# Altium schematic symbol library op.SCHLIB: 17 symbols
Pins are listed as number, name and electrical type; pins without a type are passive.

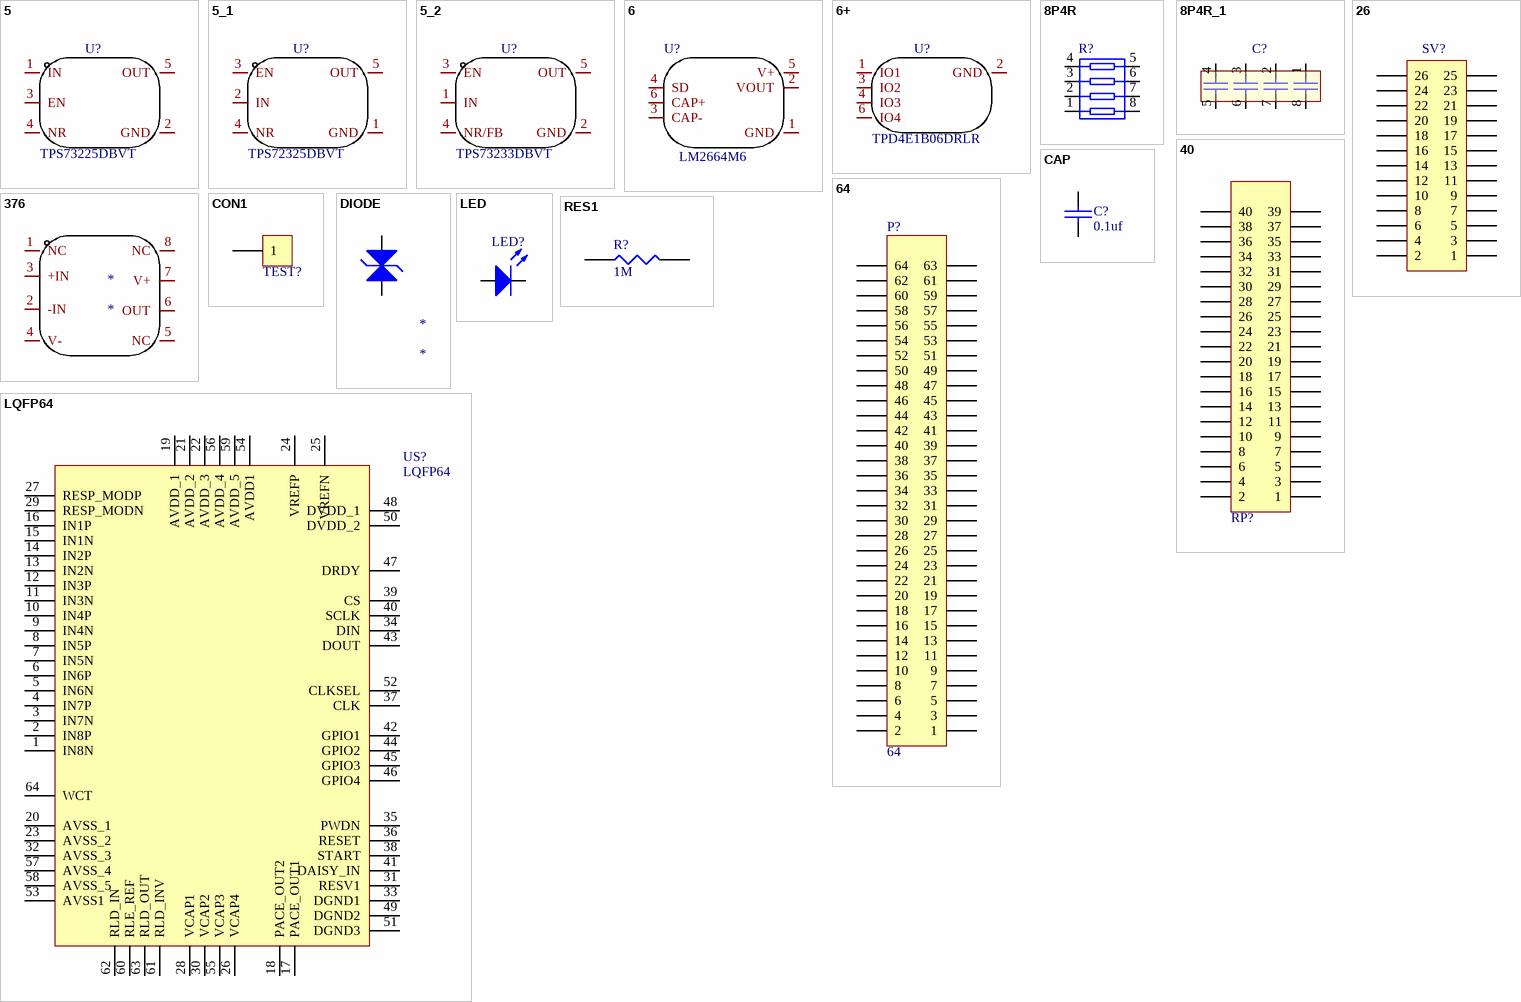
[diagram p0: symbols 5 to RES1]

## 5
designator U?, comment TPS73225DBVT
footprint sot23-5
pins: 1 IN, 2 GND, 3 EN, 4 NR, 5 OUT

## 5_1
designator U?, comment TPS72325DBVT
footprint sot23-5
pins: 1 GND, 2 IN, 3 EN, 4 NR, 5 OUT

## 5_2
designator U?, comment TPS73233DBVT
footprint sot23-5
pins: 1 IN, 2 GND, 3 EN, 4 NR/FB, 5 OUT

## 6
designator U?, comment LM2664M6
footprint sot23-6
pins: 1 GND, 2 VOUT, 3 CAP-, 4 SD, 5 V+, 6 CAP+

## 6+
designator U?, comment TPD4E1B06DRLR
footprint sot563
pins: 1 IO1, 2 GND, 3 IO2, 4 IO3, 6 IO4

## 8P4R
designator R?
Loss Rate: 0.02; Code: *; Value: *
footprint 8P4R
pins: 1, 2, 3, 4, 5, 6, 7, 8

## 8P4R_1
designator C?
Loss Rate: 0.02; Code: *; Value: *
footprint 0805 array
pins: 1, 2, 3, 4, 5, 6, 7, 8

## 26
designator SV?, comment SV1  (value not drawn)
footprint 26
pins: 1, 2, 3, 4, 5, 6, 7, 8, 9, 10, 11, 12, 13, 14, 15, 16, 17, 18, 19, 20, 21, 22, 23, 24, 25, 26

## 40
designator RP?, comment RP13  (value not drawn)
footprint 40 (Footprint not found)
pins: 1, 2, 3, 4, 5, 6, 7, 8, 9, 10, 11, 12, 13, 14, 15, 16, 17, 18, 19, 20, 21, 22, 23, 24, 25, 26, 27, 28, 29, 30, 31, 32, 33, 34, 35, 36, 37, 38, 39, 40

## 64
designator P?
footprint 64
pins: 1, 2, 3, 4, 5, 6, 7, 8, 9, 10, 11, 12, 13, 14, 15, 16, 17, 18, 19, 20, 21, 22, 23, 24, 25, 26, 27, 28, 29, 30, 31, 32, 33, 34, 35, 36, 37, 38, 39, 40, 41, 42, 43, 44, 45, 46, 47, 48, 49, 50, 51, 52, 53, 54, 55, 56, 57, 58, 59, 60, 61, 62, 63, 64

## 376
designator *
pins: 1 NC, 2 -IN, 3 +IN, 4 V-, 5 NC, 6 OUT, 7 V+, 8 NC

## CAP
designator C?, comment 0.1uf
Capacitor
footprint LC-0603_C
footprint 0805
pins: 1, 2

## CON1
designator TEST?, comment TEST3  (value not drawn)
Connector
footprint P
pins: 1

## DIODE
designator *
pins: 1, 2

## LED
designator LED?
Loss Rate: 0.02; Code: *; Value: *
footprint 0805
pins: 1 A, 2 K

## LQFP64
designator US?
footprint TQFP64
pins: 1 IN8N, 2 IN8P, 3 IN7N, 4 IN7P, 5 IN6N, 6 IN6P, 7 IN5N, 8 IN5P, 9 IN4N, 10 IN4P, 11 IN3N, 12 IN3P, 13 IN2N, 14 IN2P, 15 IN1N, 16 IN1P, 17 PACE_OUT1, 18 PACE_OUT2, 19 AVDD_1, 20 AVSS_1, 21 AVDD_2, 22 AVDD_3, 23 AVSS_2, 24 VREFP, 25 VREFN, 26 VCAP4, 27 RESP_MODP, 28 VCAP1, 29 RESP_MODN, 30 VCAP2, 31 RESV1, 32 AVSS_3, 33 DGND1, 34 DIN, 35 PWDN, 36 RESET, 37 CLK, 38 START, 39 CS, 40 SCLK, 41 DAISY_IN, 42 GPIO1, 43 DOUT, 44 GPIO2, 45 GPIO3, 46 GPIO4, 47 DRDY, 48 DVDD_1, 49 DGND2, 50 DVDD_2, 51 DGND3, 52 CLKSEL, 53 AVSS1, 54 AVDD1, 55 VCAP3, 56 AVDD_4, 57 AVSS_4, 58 AVSS_5, 59 AVDD_5, 60 RLE_REF, 61 RLD_INV, 62 RLD_IN, 63 RLD_OUT, 64 WCT

## RES1
designator R?, comment 1M
footprint LC-0603_R
footprint 0805
pins: 1, 2